# Altium schematic symbol library SIM Card.SchLib: 7 symbols
Pins are listed as number, name and electrical type; pins without a type are passive.

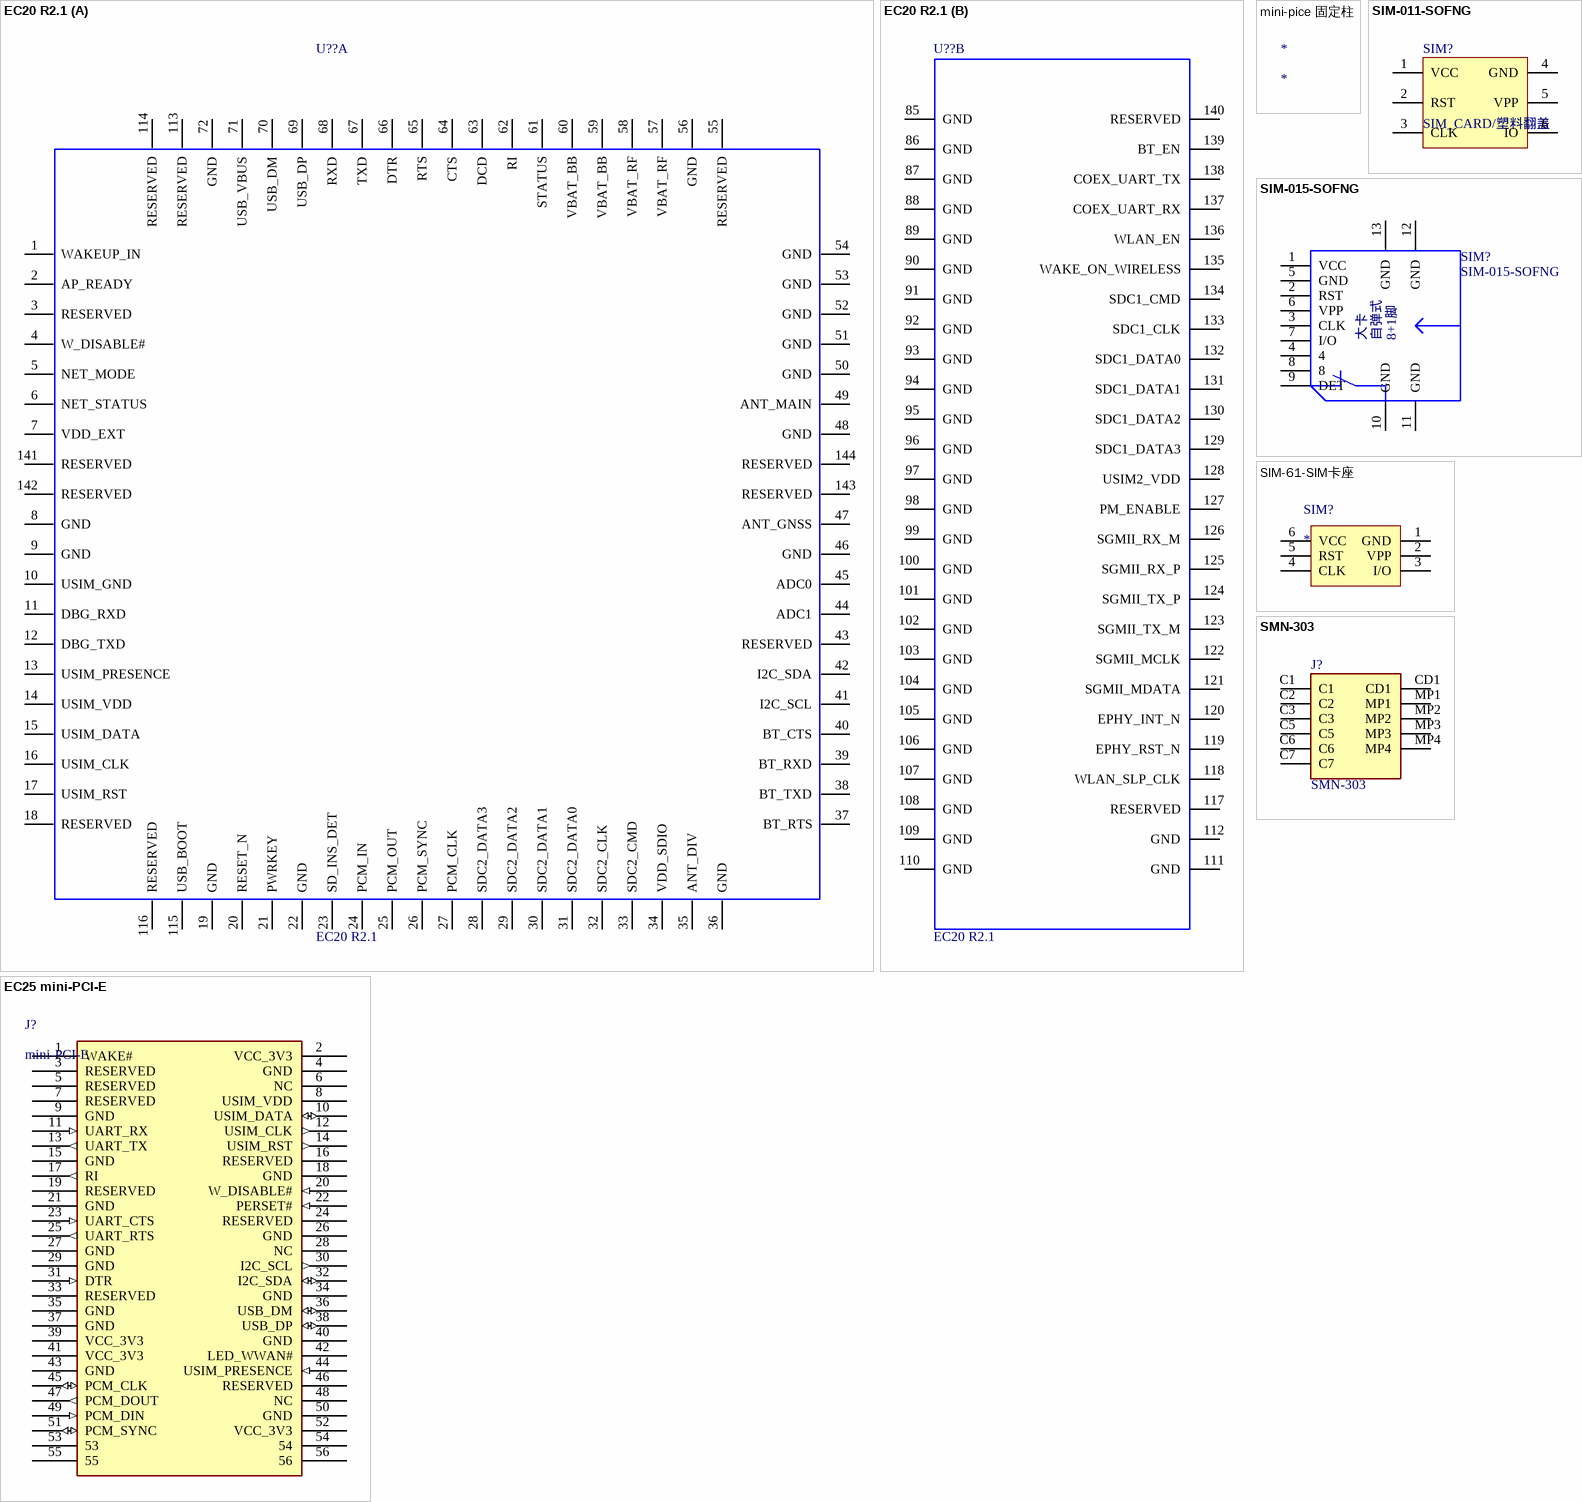
[diagram p0: symbols EC20 R2.1 to SMN-303]

## EC20 R2.1
designator U??
Value: *; Part Description: *; PCB DECAL: *
footprint EC20_R2.1
part A pins: 1 WAKEUP_IN, 2 AP_READY, 3 RESERVED, 4 W_DISABLE#, 5 NET_MODE, 6 NET_STATUS, 7 VDD_EXT, 8 GND, 9 GND, 10 USIM_GND, 11 DBG_RXD, 12 DBG_TXD, 13 USIM_PRESENCE, 14 USIM_VDD, 15 USIM_DATA, 16 USIM_CLK, 17 USIM_RST, 18 RESERVED, 19 GND, 20 RESET_N, 21 PWRKEY, 22 GND, 23 SD_INS_DET, 24 PCM_IN, 25 PCM_OUT, 26 PCM_SYNC, 27 PCM_CLK, 28 SDC2_DATA3, 29 SDC2_DATA2, 30 SDC2_DATA1, 31 SDC2_DATA0, 32 SDC2_CLK, 33 SDC2_CMD, 34 VDD_SDIO, 35 ANT_DIV, 36 GND, 37 BT_RTS, 38 BT_TXD, 39 BT_RXD, 40 BT_CTS, 41 I2C_SCL, 42 I2C_SDA, 43 RESERVED, 44 ADC1, 45 ADC0, 46 GND, 47 ANT_GNSS, 48 GND, 49 ANT_MAIN, 50 GND, 51 GND, 52 GND, 53 GND, 54 GND, 55 RESERVED, 56 GND, 57 VBAT_RF, 58 VBAT_RF, 59 VBAT_BB, 60 VBAT_BB, 61 STATUS, 62 RI, 63 DCD, 64 CTS, 65 RTS, 66 DTR, 67 TXD, 68 RXD, 69 USB_DP, 70 USB_DM, 71 USB_VBUS, 72 GND, 113 RESERVED, 114 RESERVED, 115 USB_BOOT, 116 RESERVED, 141 RESERVED, 142 RESERVED, 143 RESERVED, 144 RESERVED
part B pins: 85 GND, 86 GND, 87 GND, 88 GND, 89 GND, 90 GND, 91 GND, 92 GND, 93 GND, 94 GND, 95 GND, 96 GND, 97 GND, 98 GND, 99 GND, 100 GND, 101 GND, 102 GND, 103 GND, 104 GND, 105 GND, 106 GND, 107 GND, 108 GND, 109 GND, 110 GND, 111 GND, 112 GND, 117 RESERVED, 118 WLAN_SLP_CLK, 119 EPHY_RST_N, 120 EPHY_INT_N, 121 SGMII_MDATA, 122 SGMII_MCLK, 123 SGMII_TX_M, 124 SGMII_TX_P, 125 SGMII_RX_P, 126 SGMII_RX_M, 127 PM_ENABLE, 128 USIM2_VDD, 129 SDC1_DATA3, 130 SDC1_DATA2, 131 SDC1_DATA1, 132 SDC1_DATA0, 133 SDC1_CLK, 134 SDC1_CMD, 135 WAKE_ON_WIRELESS, 136 WLAN_EN, 137 COEX_UART_RX, 138 COEX_UART_TX, 139 BT_EN, 140 RESERVED
2 alternate drawings of the same symbol

## EC25 mini-PCI-E
designator J?, comment mini-PCI-E
footprint MINI-PCI-E-5.2H (MINI PCI-e 52P贴片插座，间距0.8mm 高度9mm)
footprint MINI-PCI-E - 9.9H (MINI PCI-e 52P贴片插座，间距0.8mm 高度9mm)
footprint MINI-PCI-E-4H (MINI PCI-e 52P贴片插座)
pins: 1 WAKE# (oc), 2 VCC_3V3 (power), 3 RESERVED, 4 GND (power), 5 RESERVED, 6 NC, 7 RESERVED, 8 USIM_VDD (power), 9 GND (power), 10 USIM_DATA (io), 11 UART_RX (in), 12 USIM_CLK (out), 13 UART_TX (out), 14 USIM_RST (out), 15 GND (power), 16 RESERVED, 17 RI (out), 18 GND (power), 19 RESERVED, 20 W_DISABLE# (in), 21 GND (power), 22 PERSET# (in), 23 UART_CTS (in), 24 RESERVED, 25 UART_RTS (out), 26 GND (power), 27 GND (power), 28 NC, 29 GND (power), 30 I2C_SCL (out), 31 DTR (in), 32 I2C_SDA (io), 33 RESERVED, 34 GND (power), 35 GND (power), 36 USB_DM (io), 37 GND (power), 38 USB_DP (io), 39 VCC_3V3 (power), 40 GND (power), 41 VCC_3V3 (power), 42 LED_WWAN# (oc), 43 GND (power), 44 USIM_PRESENCE (in), 45 PCM_CLK (io), 46 RESERVED, 47 PCM_DOUT (out), 48 NC (power), 49 PCM_DIN (in), 50 GND (power), 51 PCM_SYNC (io), 52 VCC_3V3, 53, 54, 55, 56

## mini-pice 固定柱
designator *

## SIM-011-SOFNG
designator SIM?, comment SIM_CARD/塑料翻盖
footprint SIM-011-SOFNG
pins: 1 VCC, 2 RST, 3 CLK, 4 GND, 5 VPP, 6 IO
2 alternate drawings of the same symbol

## SIM-015-SOFNG
designator SIM?
footprint SIM-015-SOFNG
pins: 1 VCC, 2 RST, 3 CLK, 4, 5 GND, 6 VPP, 7 I/O, 8, 9 DET, 10 GND, 11 GND, 12 GND, 13 GND
text: 大卡; 自弹式; 8+1脚

## SIM-61-SIM卡座
designator SIM?
footprint SIM-61-SIM卡座
pins: 1 GND, 2 VPP, 3 I/O, 4 CLK, 5 RST, 6 VCC

## SMN-303
designator J?
自弹式NANO SIM卡座 XUNPU(讯普); Datasheet Link: https://datasheet.lcsc.com/szlcsc/XUNPU-SMN-303_C266888.pdf; Height: 1.47mm; Manufacturer_Name: XUNPU; Manufacturer_Part_Number: SMN-303
footprint SMN303 (Nano SIM 自弹)
pins: C1, C2, C3, C5, C6, C7, CD1, MP1, MP2, MP3, MP4